# Altium footprint library CN_JST-B4B-S-XH.PcbLib: 1 footprints
Each footprint in its own frame and in the unit in brackets; x right, y up, seen from the top. Pads: shape width x height; smd on the part's side, far side on the other; paste and mask are expansions set on the pad; w line width, h text height; cw(c..) or ccw(c..) is an arc to the next point about the centre after c.
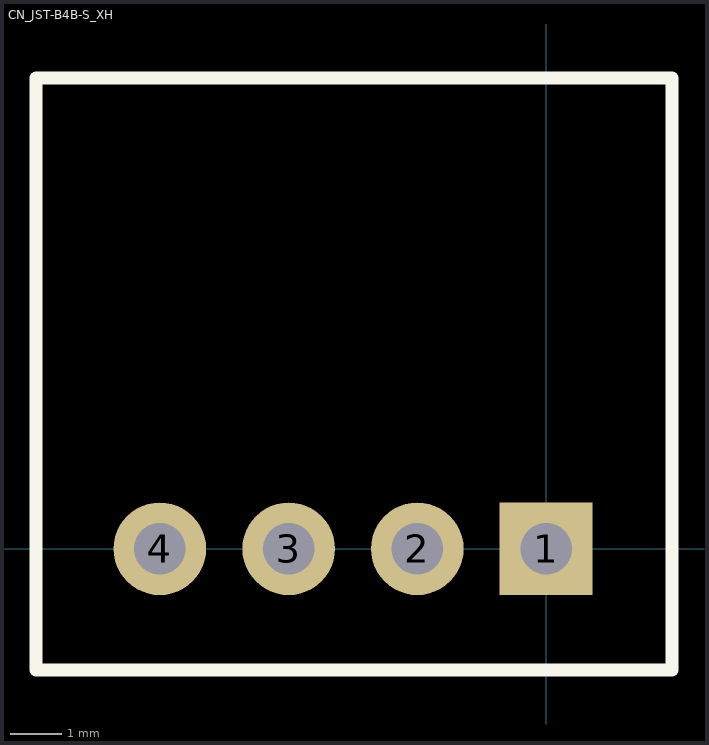
[diagram p0: the footprint, top view; thin cyan lines are the x and y axes]

## CN_JST-B4B-S_XH [mm] "JST 2.5mm disconnectable crimp connector"
pads (4):
  rect 1.8x1.8 hole 1: 1(0,0)
  round 1.8 hole 1: 2(-2.5,0) 3(-5,0) 4(-7.5,0)
Top Overlay:
  lines w0.254: -9.91,-2.35 2.45,-2.35 2.45,9.144 -9.91,9.144 -9.91,-2.35
3D body: height 6.1, standoff -2, extent -9.95,-2.3 2.45,9.2